# Altium footprint library HY2.0.PcbLib: 1 footprints
Each footprint in its own frame and in the unit in brackets; x right, y up, seen from the top. Pads: shape width x height; smd on the part's side, far side on the other; paste and mask are expansions set on the pad; w line width, h text height; cw(c..) or ccw(c..) is an arc to the next point about the centre after c.
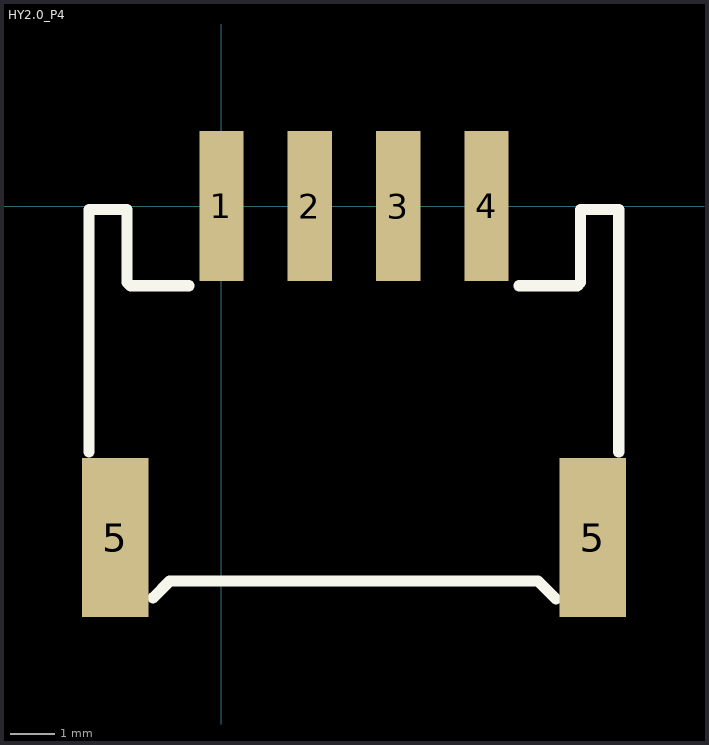
[diagram p0: the footprint, top view; thin cyan lines are the x and y axes]

## HY2.0_P4 [mm]
pads (6):
  rect 1x3.4 smd: 1(0,0) 2(2,0) 3(4,0) 4(6,0)
  rect 1.5x3.6 smd: 5(-2.4,-7.5) 5(8.4,-7.5)
Top Overlay:
  lines w0.254: -2.997,-5.563 -2.997,-0.076 -2.134,-0.076 -2.134,-1.727 -2.057,-1.803 -0.737,-1.803 ; -1.549,-8.865 -1.168,-8.484 7.163,-8.484 7.569,-8.89 ; 6.731,-1.803 8.052,-1.803 8.128,-1.727 8.128,-0.076 8.992,-0.076 8.992,-5.563
3D body "Connecteur Grove (flat).STEP": height 5, standoff 0, extent -3.003,-9.296 8.997,0.654